# Altium schematic symbol library 双键灯.SchLib: 11 symbols
Pins are listed as number, name and electrical type; pins without a type are passive.

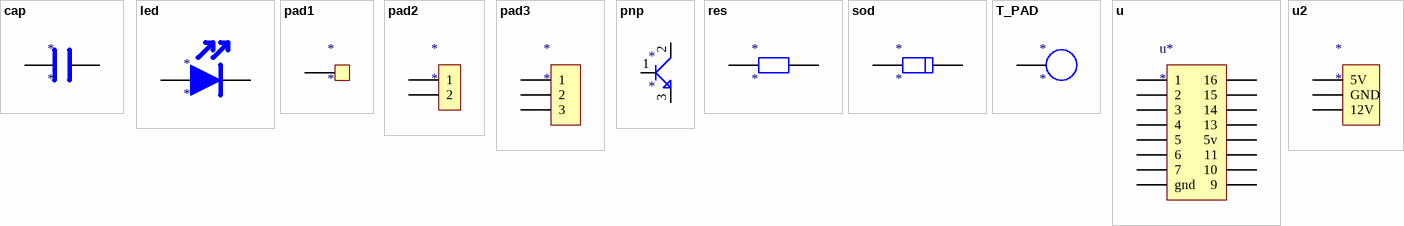
[diagram p0: symbols cap to u2]

## cap
designator *
footprint C0603
pins: 1, 2

## led
designator *
footprint 3806(020LED)
pins: A, K

## pad1
designator *
footprint PAD
pins: 1

## pad2
designator *
footprint PAD_2 _ab
pins: 1, 2

## pad3
designator *
footprint PAD*3
pins: 1, 2, 3

## pnp
designator *
footprint TO-252
pins: 1, 2, 3

## res
designator *
footprint R0603
pins: 1, 2

## sod
designator *
footprint SOD123
pins: 1, 2

## T_PAD
designator *
footprint TOUCH_PAD
pins: 4

## u
designator u*
footprint SOP16
pins: 1, 2, 3, 4, 5, 6, 7, 8 gnd, 9, 10, 11, 12 5v, 13, 14, 15, 16

## u2
designator *
footprint SOT-89
pins: 1 5V, 2 GND, 3 12V